# EAGLE library part DRV8432DKD (library 8432)
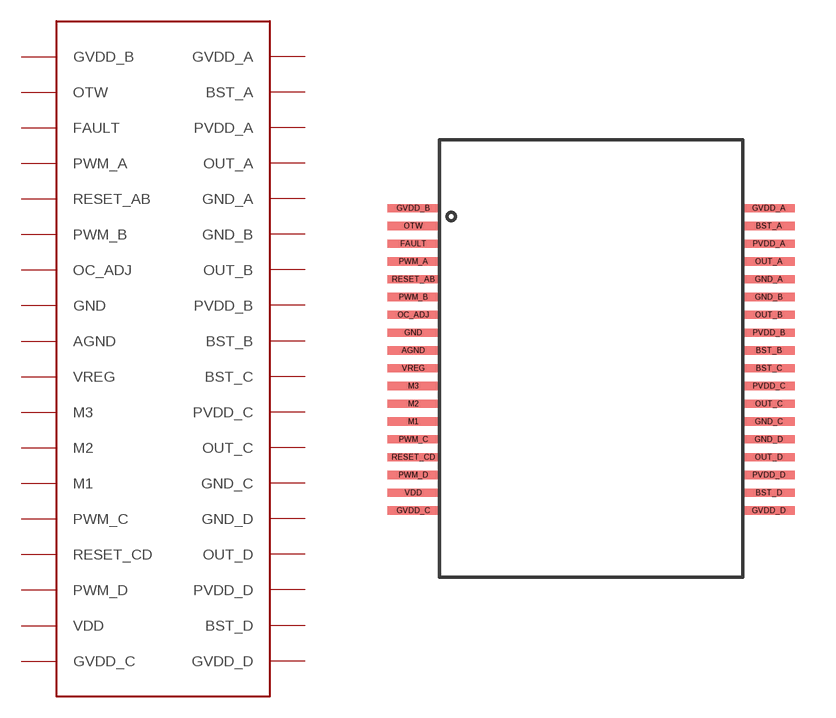
[diagram p0: symbol with the pads of DRV8432DKD; footprint DRV8432DKD]

Designator prefix -

## DRV8432DKD  [DRV8432DKD]
AGND  AGND
BST_A  BST_A
BST_B  BST_B
BST_C  BST_C
BST_D  BST_D
FAULT  FAULT
GND  GND
GND_A  GND_A
GND_B  GND_B
GND_C  GND_C
GND_D  GND_D
GVDD_A  GVDD_A
GVDD_B  GVDD_B
GVDD_C  GVDD_C
GVDD_D  GVDD_D
M1  M1
M2  M2
M3  M3
OC_ADJ  OC_ADJ
OTW  OTW
OUT_A  OUT_A
OUT_B  OUT_B
OUT_C  OUT_C
OUT_D  OUT_D
PVDD_A  PVDD_A
PVDD_B  PVDD_B
PVDD_C  PVDD_C
PVDD_D  PVDD_D
PWM_A  PWM_A
PWM_B  PWM_B
PWM_C  PWM_C
PWM_D  PWM_D
RESET_AB  RESET_AB
RESET_CD  RESET_CD
VDD  VDD
VREG  VREG

## Footprint DRV8432DKD (pad centres in mm)
smd 1.9 x 0.3: AGND -6.5,0.65; BST_A 6.5,5.2; BST_B 6.5,0.65; BST_C 6.5,0; BST_D 6.5,-4.55; FAULT -6.5,4.55; GND -6.5,1.3; GND_A 6.5,3.25; GND_B 6.5,2.6; GND_C 6.5,-1.95; GND_D 6.5,-2.6; GVDD_A 6.5,5.85; GVDD_B -6.5,5.85; GVDD_C -6.5,-5.2; GVDD_D 6.5,-5.2; M1 -6.5,-1.95; M2 -6.5,-1.3; M3 -6.5,-0.65; OC_ADJ -6.5,1.95; OTW -6.5,5.2; OUT_A 6.5,3.9; OUT_B 6.5,1.95; OUT_C 6.5,-1.3; OUT_D 6.5,-3.25; PVDD_A 6.5,4.55; PVDD_B 6.5,1.3; PVDD_C 6.5,-0.65; PVDD_D 6.5,-3.9; PWM_A -6.5,3.9; PWM_B -6.5,2.6; PWM_C -6.5,-2.6; PWM_D -6.5,-3.9; RESET_AB -6.5,3.25; RESET_CD -6.5,-3.25; VDD -6.5,-4.55; VREG -6.5,0